# Altium integrated library MicroCombiconMC_1881493.IntLib: 1 symbol
Pins are listed as number, name and electrical type; pins without a type are passive.

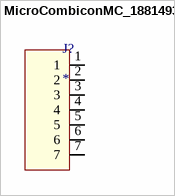
[diagram p0: symbol MicroCombiconMC_1881493]

## MicroCombiconMC_1881493
designator J?
TERM BLOCK HDR 7POS 90DEG 2.5MM / Manufacturer PN: 1881493
footprint MicroCombiconMC_1881493
pins: 1, 2, 3, 4, 5, 6, 7